# Altium footprint library RA73F2A10K2BTD.PcbLib: 1 footprints
Each footprint in its own frame and in the unit in brackets; x right, y up, seen from the top. Pads: shape width x height; smd on the part's side, far side on the other; paste and mask are expansions set on the pad; w line width, h text height; cw(c..) or ccw(c..) is an arc to the next point about the centre after c.
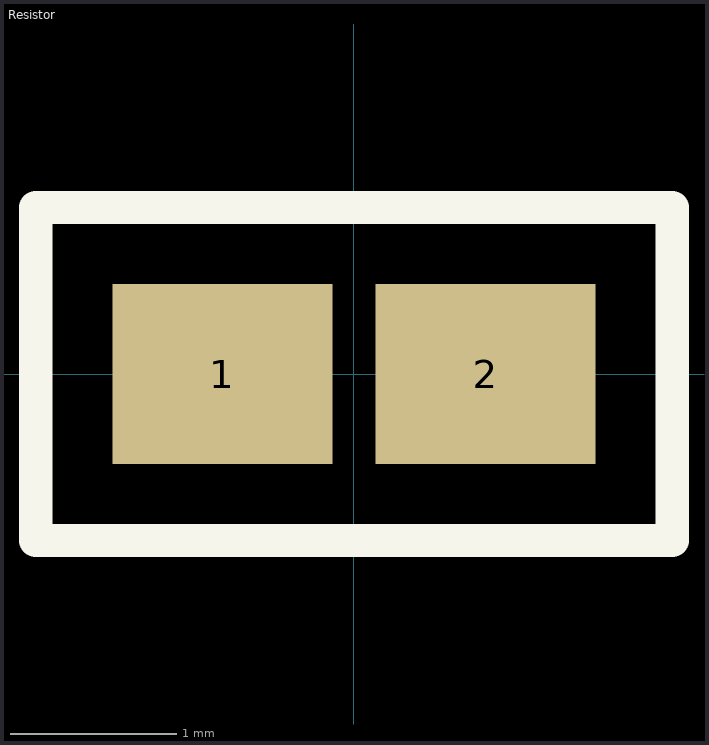
[diagram p0: the footprint, top view; thin cyan lines are the x and y axes]

## Resistor [mm] "Resistor footprint"
pads (2):
  rect 1.32x1.08 smd: 1(-0.79,0) 2(0.79,0)
Top Overlay:
  lines w0.2: -1.91,-1 1.91,-1 1.91,1 -1.91,1 -1.91,0 -1.91,-1